# Altium schematic symbol library TLMyLibrary.SchLib: 281 symbols
Pins are listed as number, name and electrical type; pins without a type are passive.

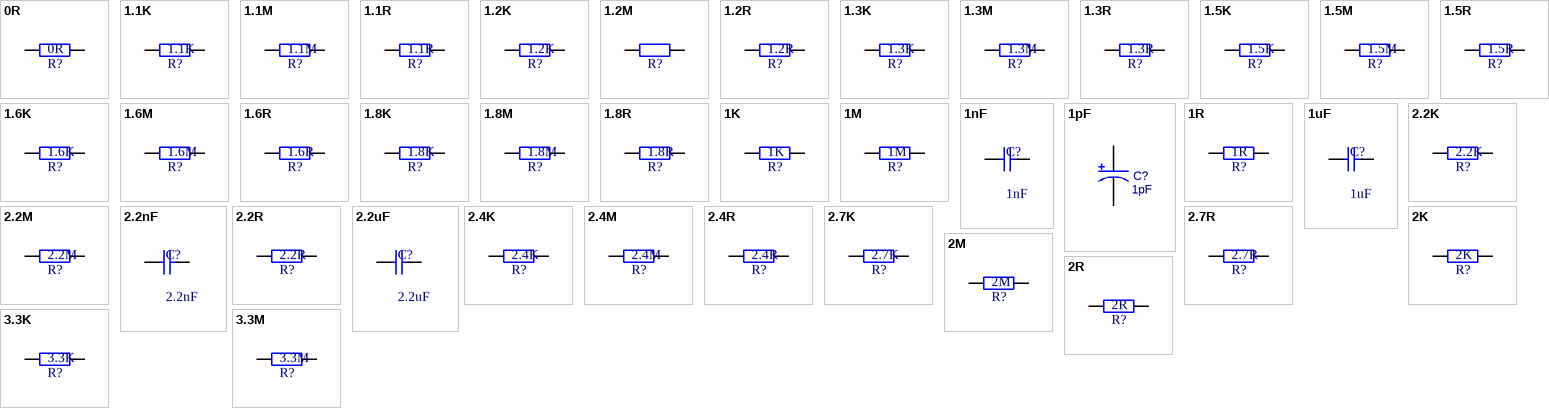
[diagram p0: symbols 0R to 3.3M]

## 0R
designator R?
贴片电阻
pins: 1, 2

## 1.1K
designator R?
贴片电阻
pins: 1, 2

## 1.1M
designator R?
贴片电阻
pins: 1, 2

## 1.1R
designator R?
贴片电阻
pins: 1, 2

## 1.2K
designator R?
贴片电阻
pins: 1, 2

## 1.2M
designator R?
贴片电阻
pins: 1, 2

## 1.2R
designator R?
贴片电阻
pins: 1, 2

## 1.3K
designator R?
贴片电阻
pins: 1, 2

## 1.3M
designator R?
贴片电阻
pins: 1, 2

## 1.3R
designator R?
贴片电阻
pins: 1, 2

## 1.5K
designator R?
贴片电阻
pins: 1, 2

## 1.5M
designator R?
贴片电阻
pins: 1, 2

## 1.5R
designator R?
贴片电阻
pins: 1, 2

## 1.6K
designator R?
贴片电阻
pins: 1, 2

## 1.6M
designator R?
贴片电阻
pins: 1, 2

## 1.6R
designator R?
贴片电阻
pins: 1, 2

## 1.8K
designator R?
贴片电阻
pins: 1, 2

## 1.8M
designator R?
贴片电阻
pins: 1, 2

## 1.8R
designator R?
贴片电阻
pins: 1, 2

## 1K
designator R?
贴片电阻
pins: 1, 2

## 1M
designator R?
贴片电阻
pins: 1, 2

## 1nF
designator C?
无极性电容
pins: 1, 2

## 1pF
designator C?
极性电容
footprint CAP-SMD_BD6.3-L6.6-W6.6-FD
pins: 1, 2

## 1R
designator R?
贴片电阻
pins: 1, 2

## 1uF
designator C?
无极性电容
pins: 1, 2

## 2.2K
designator R?
贴片电阻
pins: 1, 2

## 2.2M
designator R?
贴片电阻
pins: 1, 2

## 2.2nF
designator C?
无极性电容
pins: 1, 2

## 2.2R
designator R?
贴片电阻
pins: 1, 2

## 2.2uF
designator C?
无极性电容
pins: 1, 2

## 2.4K
designator R?
贴片电阻
pins: 1, 2

## 2.4M
designator R?
贴片电阻
pins: 1, 2

## 2.4R
designator R?
贴片电阻
pins: 1, 2

## 2.7K
designator R?
贴片电阻
pins: 1, 2

## 2.7R
designator R?
贴片电阻
pins: 1, 2

## 2K
designator R?
贴片电阻
pins: 1, 2

## 2M
designator R?
贴片电阻
pins: 1, 2

## 2R
designator R?
贴片电阻
pins: 1, 2

## 3.3K
designator R?
贴片电阻
pins: 1, 2

## 3.3M
designator R?
贴片电阻
pins: 1, 2

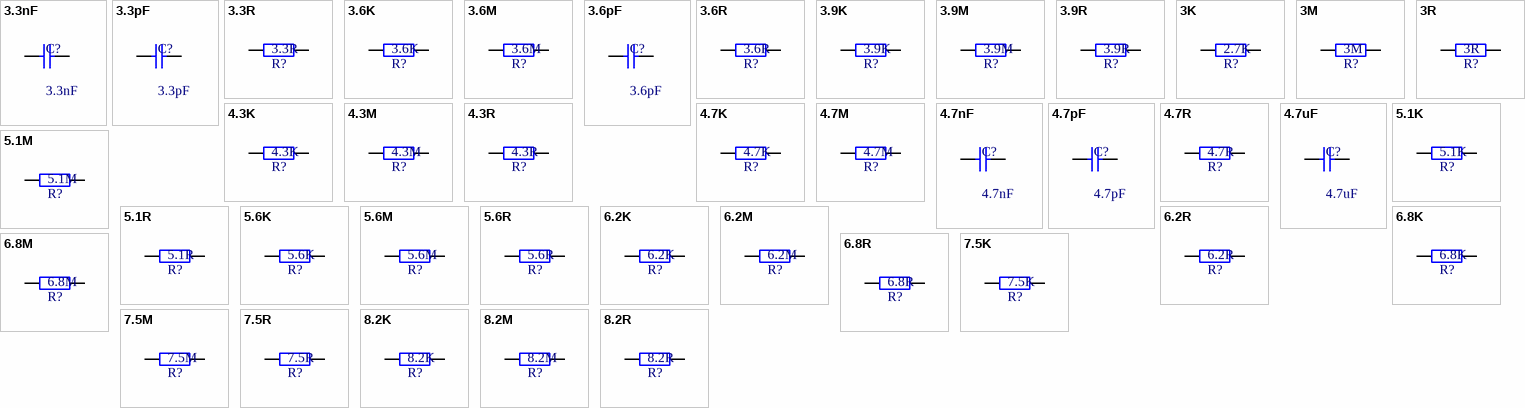
[diagram p1: symbols 3.3nF to 8.2R]

## 3.3nF
designator C?
无极性电容
pins: 1, 2

## 3.3pF
designator C?
无极性电容
pins: 1, 2

## 3.3R
designator R?
贴片电阻
pins: 1, 2

## 3.6K
designator R?
贴片电阻
pins: 1, 2

## 3.6M
designator R?
贴片电阻
pins: 1, 2

## 3.6pF
designator C?
无极性电容
pins: 1, 2

## 3.6R
designator R?
贴片电阻
pins: 1, 2

## 3.9K
designator R?
贴片电阻
pins: 1, 2

## 3.9M
designator R?
贴片电阻
pins: 1, 2

## 3.9R
designator R?
贴片电阻
pins: 1, 2

## 3K
designator R?, comment 2.7K
贴片电阻
pins: 1, 2

## 3M
designator R?
贴片电阻
pins: 1, 2

## 3R
designator R?
贴片电阻
pins: 1, 2

## 4.3K
designator R?
贴片电阻
pins: 1, 2

## 4.3M
designator R?
贴片电阻
pins: 1, 2

## 4.3R
designator R?
贴片电阻
pins: 1, 2

## 4.7K
designator R?
贴片电阻
pins: 1, 2

## 4.7M
designator R?
贴片电阻
pins: 1, 2

## 4.7nF
designator C?
无极性电容
pins: 1, 2

## 4.7pF
designator C?
无极性电容
pins: 1, 2

## 4.7R
designator R?
贴片电阻
pins: 1, 2

## 4.7uF
designator C?
无极性电容
pins: 1, 2

## 5.1K
designator R?
贴片电阻
pins: 1, 2

## 5.1M
designator R?
贴片电阻
pins: 1, 2

## 5.1R
designator R?
贴片电阻
pins: 1, 2

## 5.6K
designator R?
贴片电阻
pins: 1, 2

## 5.6M
designator R?
贴片电阻
pins: 1, 2

## 5.6R
designator R?
贴片电阻
pins: 1, 2

## 6.2K
designator R?
贴片电阻
pins: 1, 2

## 6.2M
designator R?
贴片电阻
pins: 1, 2

## 6.2R
designator R?
贴片电阻
pins: 1, 2

## 6.8K
designator R?
贴片电阻
pins: 1, 2

## 6.8M
designator R?
贴片电阻
pins: 1, 2

## 6.8R
designator R?
贴片电阻
pins: 1, 2

## 7.5K
designator R?
贴片电阻
pins: 1, 2

## 7.5M
designator R?
贴片电阻
pins: 1, 2

## 7.5R
designator R?
贴片电阻
pins: 1, 2

## 8.2K
designator R?
贴片电阻
pins: 1, 2

## 8.2M
designator R?
贴片电阻
pins: 1, 2

## 8.2R
designator R?
贴片电阻
pins: 1, 2

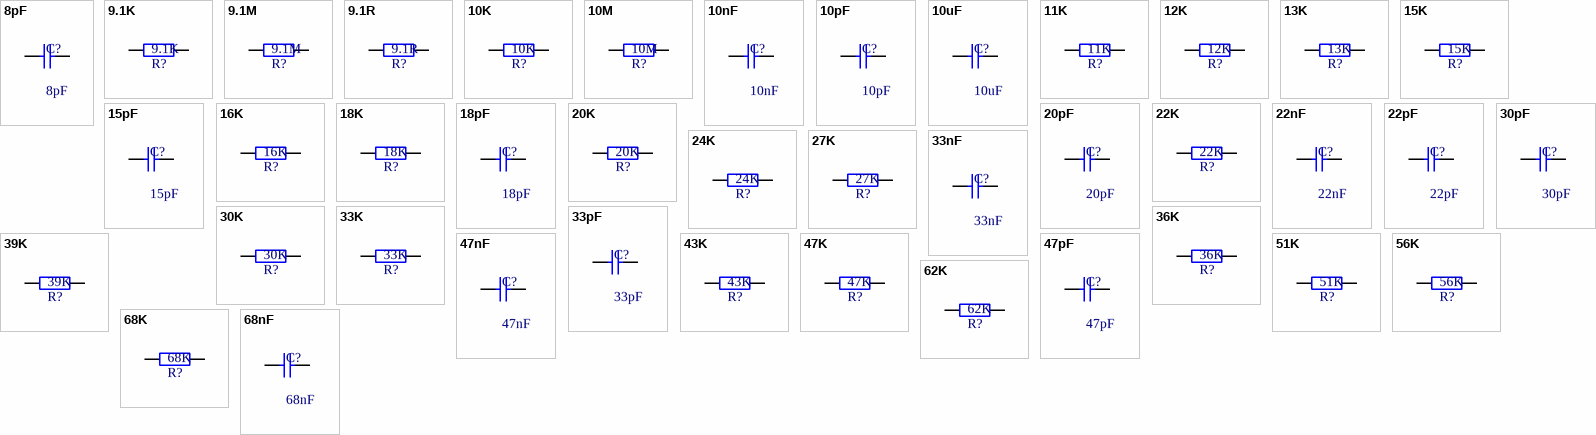
[diagram p2: symbols 8pF to 68nF]

## 8pF
designator C?
无极性电容
pins: 1, 2

## 9.1K
designator R?
贴片电阻
pins: 1, 2

## 9.1M
designator R?
贴片电阻
pins: 1, 2

## 9.1R
designator R?
贴片电阻
pins: 1, 2

## 10K
designator R?
贴片电阻
pins: 1, 2

## 10M
designator R?
贴片电阻
pins: 1, 2

## 10nF
designator C?
无极性电容
pins: 1, 2

## 10pF
designator C?
无极性电容
pins: 1, 2

## 10uF
designator C?
无极性电容
pins: 1, 2

## 11K
designator R?
贴片电阻
pins: 1, 2

## 12K
designator R?
贴片电阻
pins: 1, 2

## 13K
designator R?
贴片电阻
pins: 1, 2

## 15K
designator R?
贴片电阻
pins: 1, 2

## 15pF
designator C?
无极性电容
pins: 1, 2

## 16K
designator R?
贴片电阻
pins: 1, 2

## 18K
designator R?
贴片电阻
pins: 1, 2

## 18pF
designator C?
无极性电容
pins: 1, 2

## 20K
designator R?
贴片电阻
pins: 1, 2

## 20pF
designator C?
无极性电容
pins: 1, 2

## 22K
designator R?
贴片电阻
pins: 1, 2

## 22nF
designator C?
无极性电容
pins: 1, 2

## 22pF
designator C?
无极性电容
pins: 1, 2

## 24K
designator R?
贴片电阻
pins: 1, 2

## 27K
designator R?
贴片电阻
pins: 1, 2

## 30K
designator R?
贴片电阻
pins: 1, 2

## 30pF
designator C?
无极性电容
pins: 1, 2

## 33K
designator R?
贴片电阻
pins: 1, 2

## 33nF
designator C?
无极性电容
pins: 1, 2

## 33pF
designator C?
无极性电容
pins: 1, 2

## 36K
designator R?
贴片电阻
pins: 1, 2

## 39K
designator R?
贴片电阻
pins: 1, 2

## 43K
designator R?
贴片电阻
pins: 1, 2

## 47K
designator R?
贴片电阻
pins: 1, 2

## 47nF
designator C?
无极性电容
pins: 1, 2

## 47pF
designator C?
无极性电容
pins: 1, 2

## 51K
designator R?
贴片电阻
pins: 1, 2

## 56K
designator R?
贴片电阻
pins: 1, 2

## 62K
designator R?
贴片电阻
pins: 1, 2

## 68K
designator R?
贴片电阻
pins: 1, 2

## 68nF
designator C?
无极性电容
pins: 1, 2

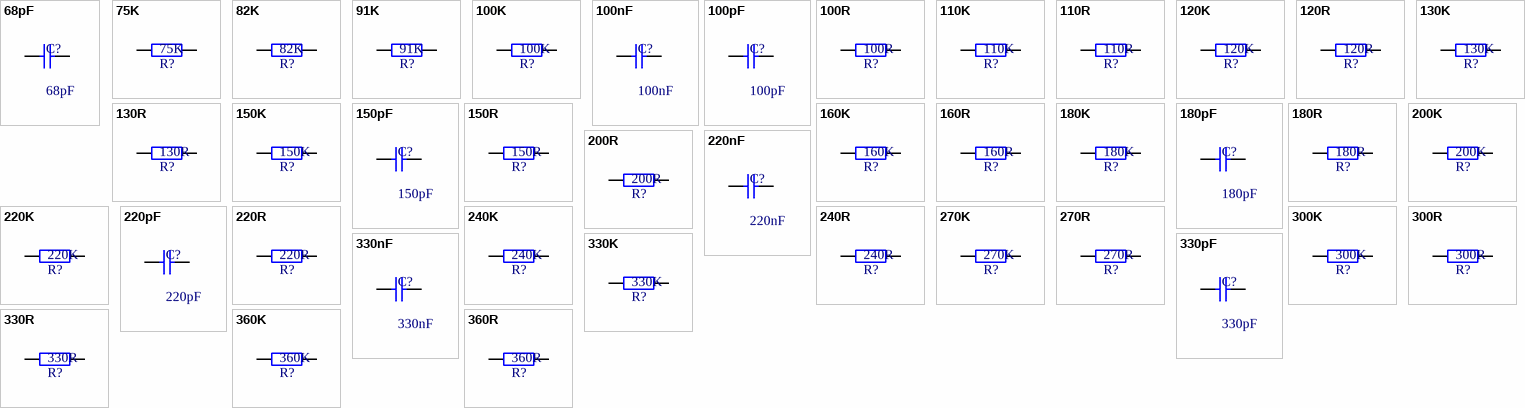
[diagram p3: symbols 68pF to 360R]

## 68pF
designator C?
无极性电容
pins: 1, 2

## 75K
designator R?
贴片电阻
pins: 1, 2

## 82K
designator R?
贴片电阻
pins: 1, 2

## 91K
designator R?
贴片电阻
pins: 1, 2

## 100K
designator R?
贴片电阻
pins: 1, 2

## 100nF
designator C?
无极性电容
pins: 1, 2

## 100pF
designator C?
无极性电容
pins: 1, 2

## 100R
designator R?
贴片电阻
pins: 1, 2

## 110K
designator R?
贴片电阻
pins: 1, 2

## 110R
designator R?
贴片电阻
pins: 1, 2

## 120K
designator R?
贴片电阻
pins: 1, 2

## 120R
designator R?
贴片电阻
pins: 1, 2

## 130K
designator R?
贴片电阻
pins: 1, 2

## 130R
designator R?
贴片电阻
pins: 1, 2

## 150K
designator R?
贴片电阻
pins: 1, 2

## 150pF
designator C?
无极性电容
pins: 1, 2

## 150R
designator R?
贴片电阻
pins: 1, 2

## 160K
designator R?
贴片电阻
pins: 1, 2

## 160R
designator R?
贴片电阻
pins: 1, 2

## 180K
designator R?
贴片电阻
pins: 1, 2

## 180pF
designator C?
无极性电容
pins: 1, 2

## 180R
designator R?
贴片电阻
pins: 1, 2

## 200K
designator R?
贴片电阻
pins: 1, 2

## 200R
designator R?
贴片电阻
pins: 1, 2

## 220K
designator R?
贴片电阻
pins: 1, 2

## 220nF
designator C?
无极性电容
pins: 1, 2

## 220pF
designator C?
无极性电容
pins: 1, 2

## 220R
designator R?
贴片电阻
pins: 1, 2

## 240K
designator R?
贴片电阻
pins: 1, 2

## 240R
designator R?
贴片电阻
pins: 1, 2

## 270K
designator R?
贴片电阻
pins: 1, 2

## 270R
designator R?
贴片电阻
pins: 1, 2

## 300K
designator R?
贴片电阻
pins: 1, 2

## 300R
designator R?
贴片电阻
pins: 1, 2

## 330K
designator R?
贴片电阻
pins: 1, 2

## 330nF
designator C?
无极性电容
pins: 1, 2

## 330pF
designator C?
无极性电容
pins: 1, 2

## 330R
designator R?
贴片电阻
pins: 1, 2

## 360K
designator R?
贴片电阻
pins: 1, 2

## 360R
designator R?
贴片电阻
pins: 1, 2

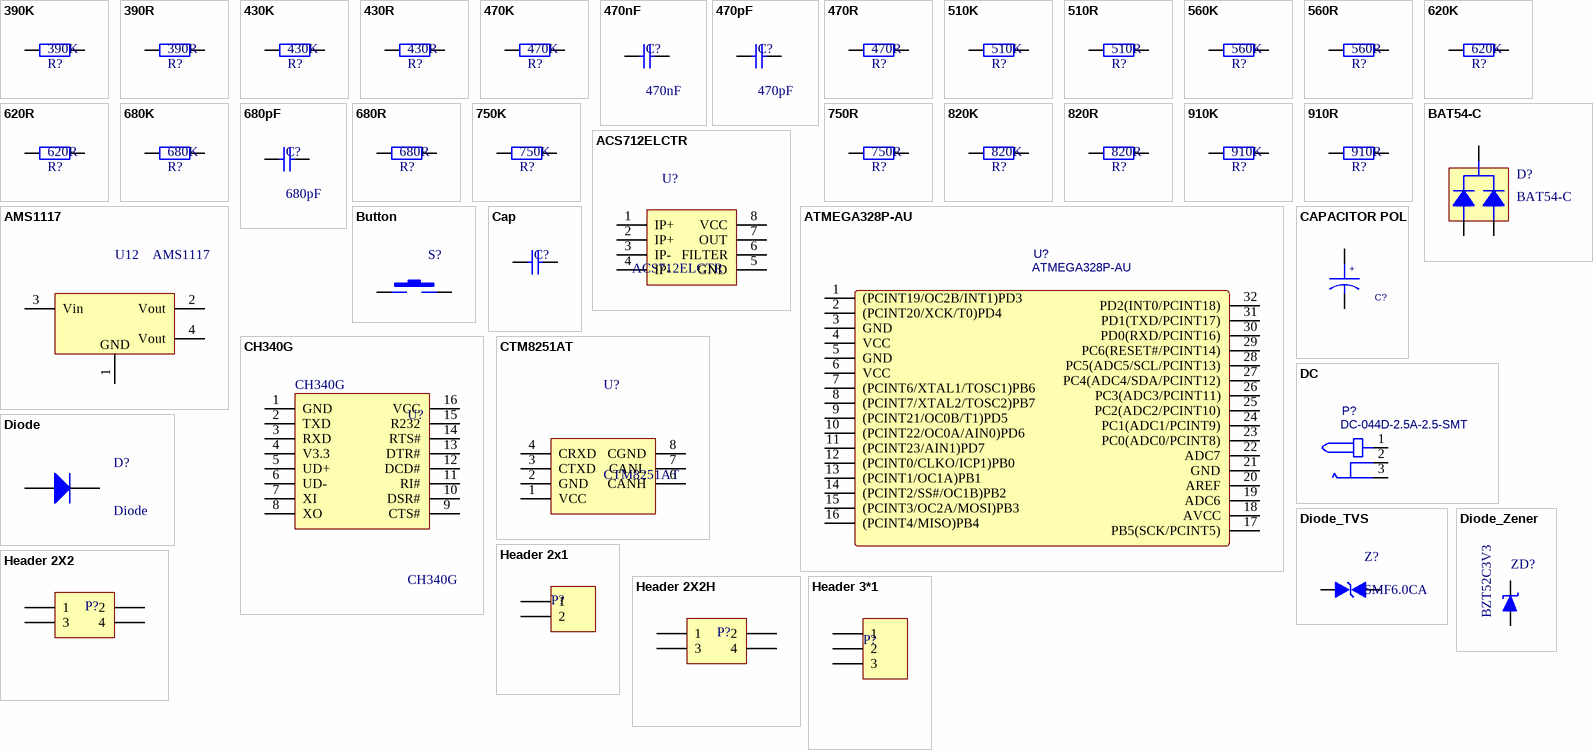
[diagram p4: symbols 390K to Header 3*1]

## 390K
designator R?
贴片电阻
pins: 1, 2

## 390R
designator R?
贴片电阻
pins: 1, 2

## 430K
designator R?
贴片电阻
pins: 1, 2

## 430R
designator R?
贴片电阻
pins: 1, 2

## 470K
designator R?
贴片电阻
pins: 1, 2

## 470nF
designator C?
无极性电容
pins: 1, 2

## 470pF
designator C?
无极性电容
pins: 1, 2

## 470R
designator R?
贴片电阻
pins: 1, 2

## 510K
designator R?
贴片电阻
pins: 1, 2

## 510R
designator R?
贴片电阻
pins: 1, 2

## 560K
designator R?
贴片电阻
pins: 1, 2

## 560R
designator R?
贴片电阻
pins: 1, 2

## 620K
designator R?
贴片电阻
pins: 1, 2

## 620R
designator R?
贴片电阻
pins: 1, 2

## 680K
designator R?
贴片电阻
pins: 1, 2

## 680pF
designator C?
无极性电容
pins: 1, 2

## 680R
designator R?
贴片电阻
pins: 1, 2

## 750K
designator R?
贴片电阻
pins: 1, 2

## 750R
designator R?
贴片电阻
pins: 1, 2

## 820K
designator R?
贴片电阻
pins: 1, 2

## 820R
designator R?
贴片电阻
pins: 1, 2

## 910K
designator R?
贴片电阻
pins: 1, 2

## 910R
designator R?
贴片电阻
pins: 1, 2

## ACS712ELCTR
designator U?
电流传感器
footprint SOIC-8
pins: 1 IP+, 2 IP+, 3 IP-, 4 IP-, 5 GND, 6 FILTER, 7 OUT, 8 VCC

## AMS1117
designator U12
LDO
footprint SOT223-3
footprint SOT-89(SOT-89-3)
pins: 1 GND, 2 Vout, 3 Vin, 4 Vout

## ATMEGA328P-AU
designator U?
MCU
footprint TQFP-32_L7.0-W7.0-P0.80-LS9.0-BL
pins: 1 (PCINT19/OC2B/INT1)PD3, 2 (PCINT20/XCK/T0)PD4, 3 GND, 4 VCC, 5 GND, 6 VCC, 7 (PCINT6/XTAL1/TOSC1)PB6, 8 (PCINT7/XTAL2/TOSC2)PB7, 9 (PCINT21/OC0B/T1)PD5, 10 (PCINT22/OC0A/AIN0)PD6, 11 (PCINT23/AIN1)PD7, 12 (PCINT0/CLKO/ICP1)PB0, 13 (PCINT1/OC1A)PB1, 14 (PCINT2/SS#/OC1B)PB2, 15 (PCINT3/OC2A/MOSI)PB3, 16 (PCINT4/MISO)PB4, 17 PB5(SCK/PCINT5), 18 AVCC, 19 ADC6, 20 AREF, 21 GND, 22 ADC7, 23 PC0(ADC0/PCINT8), 24 PC1(ADC1/PCINT9), 25 PC2(ADC2/PCINT10), 26 PC3(ADC3/PCINT11), 27 PC4(ADC4/SDA/PCINT12), 28 PC5(ADC5/SCL/PCINT13), 29 PC6(RESET#/PCINT14), 30 PD0(RXD/PCINT16), 31 PD1(TXD/PCINT17), 32 PD2(INT0/PCINT18)

## BAT54-C
designator D?
pins: 1, 2, 3

## Button
designator S?
轻触按键
pins: 1, 3

## Cap
designator C?
无极性电容
pins: 1, 2

## CAPACITOR POL
designator C?
极性电容
pins: 1, 2
text: +

## CH340G
designator U?
USB转串口芯片
footprint SOIC-16_150mil
pins: 1 GND, 2 TXD, 3 RXD, 4 V3.3, 5 UD+, 6 UD-, 7 XI, 8 XO, 9 CTS#, 10 DSR#, 11 RI#, 12 DCD#, 13 DTR#, 14 RTS#, 15 R232, 16 VCC

## CTM8251AT
designator U?
CAN隔离收发器; 厂家: 致远电子; 型号: CKM8251AT
footprint COMM-TH_CTM8251AT (19*16*7mm)
pins: 1 VCC (power), 2 GND, 3 CTXD, 4 CRXD, 6 CANH, 7 CANL, 8 CGND

## DC
designator P?, comment DC-044D-2.5A-2.5-SMT
DC头; BOM_Manufacturer: XKB Enterprise; Contributor: LCSC; BOM_Supplier: LCSC; BOM_Supplier Part: C397343; BOM_Manufacturer Part: DC-044D-2.5A-2.5-SMT; BOM_JLCPCB Part Class: Extended Part; spicePre: D; spiceSymbolName: DC-044D-2.5A-2.5-SMT
footprint DC-IN-SMD_DC-044D-2.5A-2.5-SMT
pins: 1, 2, 3

## Diode
designator D?
二极管
pins: 1 A, 2 K

## Diode_TVS
designator Z?, comment SMF6.0CA
TVS二极管
pins: 1 K, 2 A

## Diode_Zener
designator ZD?, comment BZT52C3V3
稳压二极管
footprint SMA
footprint SMB
footprint SMC (DO-214-AB/SMC; 2 C-Bend Leads; Body 7.9 x 5.9 mm, inc. leads (LxW))
footprint SOD-80
pins: 1 K, 2 A

## Header 2x1
designator P?
Header,1x 2
pins: 1, 2

## Header 2X2
designator P?
Header 2X2
pins: 1, 2, 3, 4

## Header 2X2H
designator P?
Header 2X2H
pins: 1, 2, 3, 4

## Header 3*1
designator P?
Header 1x3
pins: 1, 2, 3

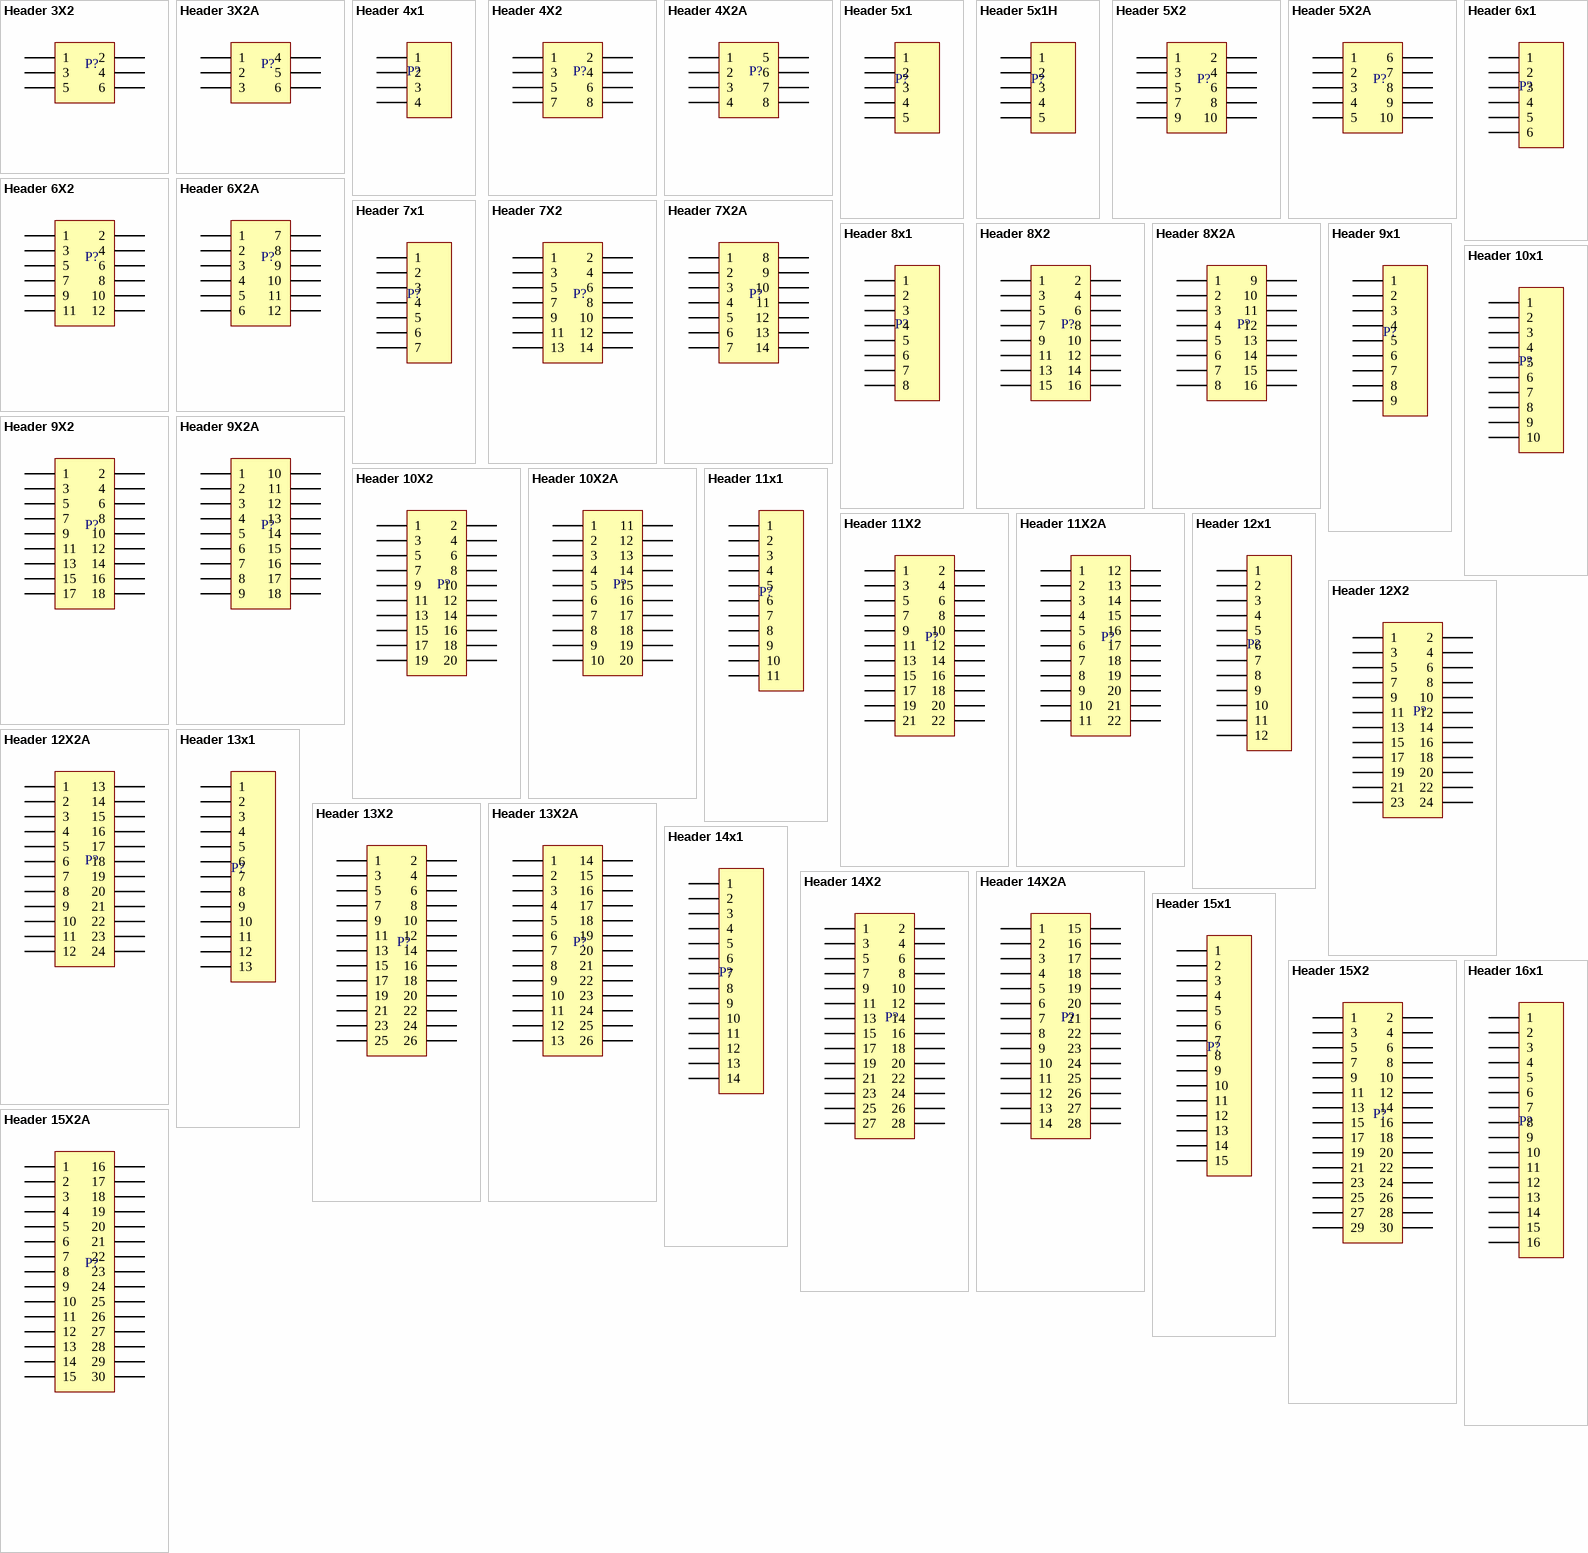
[diagram p5: symbols Header 3X2 to Header 16x1]

## Header 3X2
designator P?
Header 3X2
pins: 1, 2, 3, 4, 5, 6

## Header 3X2A
designator P?
Header 3X2A
pins: 1, 2, 3, 4, 5, 6

## Header 4x1
designator P?
Header 4x1
pins: 1, 2, 3, 4

## Header 4X2
designator P?
Header 4X2
pins: 1, 2, 3, 4, 5, 6, 7, 8

## Header 4X2A
designator P?
Header 4X2A
pins: 1, 2, 3, 4, 5, 6, 7, 8

## Header 5x1
designator P?
Header 5x1
pins: 1, 2, 3, 4, 5

## Header 5x1H
designator P?
Header 5x1H
pins: 1, 2, 3, 4, 5

## Header 5X2
designator P?
Header 5X2
pins: 1, 2, 3, 4, 5, 6, 7, 8, 9, 10

## Header 5X2A
designator P?
Header 5X2A
pins: 1, 2, 3, 4, 5, 6, 7, 8, 9, 10

## Header 6x1
designator P?
Header, 6-Pin
pins: 1, 2, 3, 4, 5, 6

## Header 6X2
designator P?
Header 6X2
pins: 1, 2, 3, 4, 5, 6, 7, 8, 9, 10, 11, 12

## Header 6X2A
designator P?
Header 6X2A
pins: 1, 2, 3, 4, 5, 6, 7, 8, 9, 10, 11, 12

## Header 7x1
designator P?
Header 7x1
pins: 1, 2, 3, 4, 5, 6, 7

## Header 7X2
designator P?
Header 7X2
pins: 1, 2, 3, 4, 5, 6, 7, 8, 9, 10, 11, 12, 13, 14

## Header 7X2A
designator P?
Header 7X2A
pins: 1, 2, 3, 4, 5, 6, 7, 8, 9, 10, 11, 12, 13, 14

## Header 8x1
designator P?
Header 8x1
pins: 1, 2, 3, 4, 5, 6, 7, 8

## Header 8X2
designator P?
Header 8X2
pins: 1, 2, 3, 4, 5, 6, 7, 8, 9, 10, 11, 12, 13, 14, 15, 16

## Header 8X2A
designator P?
Header 8X2A
pins: 1, 2, 3, 4, 5, 6, 7, 8, 9, 10, 11, 12, 13, 14, 15, 16

## Header 9x1
designator P?
Header 9x1
pins: 1, 2, 3, 4, 5, 6, 7, 8, 9

## Header 9X2
designator P?
Header 9X2
pins: 1, 2, 3, 4, 5, 6, 7, 8, 9, 10, 11, 12, 13, 14, 15, 16, 17, 18

## Header 9X2A
designator P?
Header 9X2A
pins: 1, 2, 3, 4, 5, 6, 7, 8, 9, 10, 11, 12, 13, 14, 15, 16, 17, 18

## Header 10x1
designator P?
Header 10x1
pins: 1, 2, 3, 4, 5, 6, 7, 8, 9, 10

## Header 10X2
designator P?
Header 10X2
pins: 1, 2, 3, 4, 5, 6, 7, 8, 9, 10, 11, 12, 13, 14, 15, 16, 17, 18, 19, 20

## Header 10X2A
designator P?
Header 10X2A
pins: 1, 2, 3, 4, 5, 6, 7, 8, 9, 10, 11, 12, 13, 14, 15, 16, 17, 18, 19, 20

## Header 11x1
designator P?
Header 11x1
pins: 1, 2, 3, 4, 5, 6, 7, 8, 9, 10, 11

## Header 11X2
designator P?
Header 11X2
pins: 1, 2, 3, 4, 5, 6, 7, 8, 9, 10, 11, 12, 13, 14, 15, 16, 17, 18, 19, 20, 21, 22

## Header 11X2A
designator P?
Header 11X2A
pins: 1, 2, 3, 4, 5, 6, 7, 8, 9, 10, 11, 12, 13, 14, 15, 16, 17, 18, 19, 20, 21, 22

## Header 12x1
designator P?
Header 12x1
pins: 1, 2, 3, 4, 5, 6, 7, 8, 9, 10, 11, 12

## Header 12X2
designator P?
Header 12X2
pins: 1, 2, 3, 4, 5, 6, 7, 8, 9, 10, 11, 12, 13, 14, 15, 16, 17, 18, 19, 20, 21, 22, 23, 24

## Header 12X2A
designator P?
Header 12X2A
pins: 1, 2, 3, 4, 5, 6, 7, 8, 9, 10, 11, 12, 13, 14, 15, 16, 17, 18, 19, 20, 21, 22, 23, 24

## Header 13x1
designator P?
Header 13x1
pins: 1, 2, 3, 4, 5, 6, 7, 8, 9, 10, 11, 12, 13

## Header 13X2
designator P?
Header 13X2
pins: 1, 2, 3, 4, 5, 6, 7, 8, 9, 10, 11, 12, 13, 14, 15, 16, 17, 18, 19, 20, 21, 22, 23, 24, 25, 26

## Header 13X2A
designator P?
Header 13X2A
pins: 1, 2, 3, 4, 5, 6, 7, 8, 9, 10, 11, 12, 13, 14, 15, 16, 17, 18, 19, 20, 21, 22, 23, 24, 25, 26

## Header 14x1
designator P?
Header 14x1
pins: 1, 2, 3, 4, 5, 6, 7, 8, 9, 10, 11, 12, 13, 14

## Header 14X2
designator P?
Header 14X2; LatestRevisionDate: 17-Jul-2002; LatestRevisionNote: Re-released for DXP Platform.; Publisher: Altium Limited
footprint HDR2X14 (Connector; Header; 14x2 Position)
signal-integrity model Connector
pins: 1, 2, 3, 4, 5, 6, 7, 8, 9, 10, 11, 12, 13, 14, 15, 16, 17, 18, 19, 20, 21, 22, 23, 24, 25, 26, 27, 28

## Header 14X2A
designator P?
Header 14X2A
pins: 1, 2, 3, 4, 5, 6, 7, 8, 9, 10, 11, 12, 13, 14, 15, 16, 17, 18, 19, 20, 21, 22, 23, 24, 25, 26, 27, 28

## Header 15x1
designator P?
Header 15x1
pins: 1, 2, 3, 4, 5, 6, 7, 8, 9, 10, 11, 12, 13, 14, 15

## Header 15X2
designator P?
Header 15X2
pins: 1, 2, 3, 4, 5, 6, 7, 8, 9, 10, 11, 12, 13, 14, 15, 16, 17, 18, 19, 20, 21, 22, 23, 24, 25, 26, 27, 28, 29, 30

## Header 15X2A
designator P?
Header 15X2A
pins: 1, 2, 3, 4, 5, 6, 7, 8, 9, 10, 11, 12, 13, 14, 15, 16, 17, 18, 19, 20, 21, 22, 23, 24, 25, 26, 27, 28, 29, 30

## Header 16x1
designator P?
Header 16x1
pins: 1, 2, 3, 4, 5, 6, 7, 8, 9, 10, 11, 12, 13, 14, 15, 16

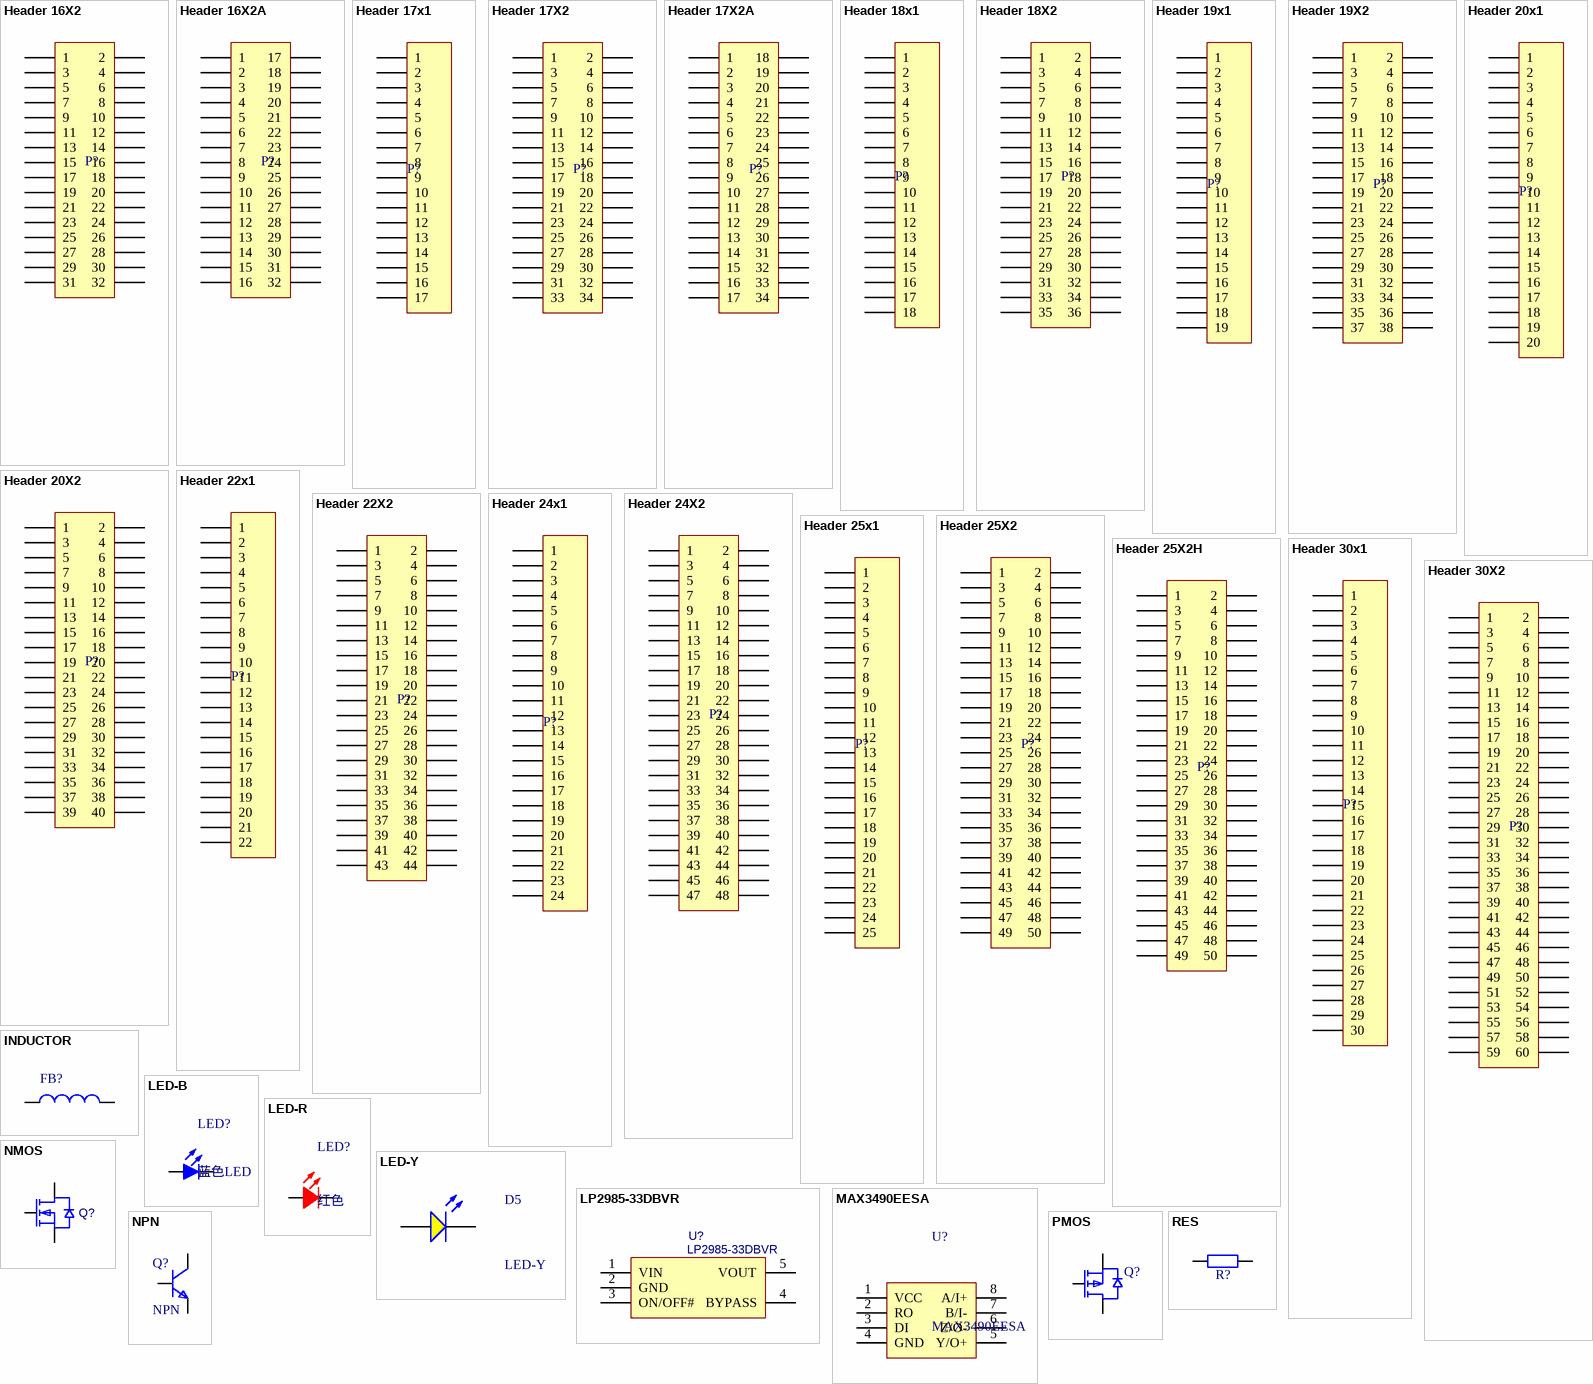
[diagram p6: symbols Header 16X2 to RES]

## Header 16X2
designator P?
Header 16X2
pins: 1, 2, 3, 4, 5, 6, 7, 8, 9, 10, 11, 12, 13, 14, 15, 16, 17, 18, 19, 20, 21, 22, 23, 24, 25, 26, 27, 28, 29, 30, 31, 32

## Header 16X2A
designator P?
Header 16X2A
pins: 1, 2, 3, 4, 5, 6, 7, 8, 9, 10, 11, 12, 13, 14, 15, 16, 17, 18, 19, 20, 21, 22, 23, 24, 25, 26, 27, 28, 29, 30, 31, 32

## Header 17x1
designator P?
Header 17x1
pins: 1, 2, 3, 4, 5, 6, 7, 8, 9, 10, 11, 12, 13, 14, 15, 16, 17

## Header 17X2
designator P?
Header 17X2
pins: 1, 2, 3, 4, 5, 6, 7, 8, 9, 10, 11, 12, 13, 14, 15, 16, 17, 18, 19, 20, 21, 22, 23, 24, 25, 26, 27, 28, 29, 30, 31, 32, 33, 34

## Header 17X2A
designator P?
Header 17X2A
pins: 1, 2, 3, 4, 5, 6, 7, 8, 9, 10, 11, 12, 13, 14, 15, 16, 17, 18, 19, 20, 21, 22, 23, 24, 25, 26, 27, 28, 29, 30, 31, 32, 33, 34

## Header 18x1
designator P?
Header 18x1
pins: 1, 2, 3, 4, 5, 6, 7, 8, 9, 10, 11, 12, 13, 14, 15, 16, 17, 18

## Header 18X2
designator P?
Header 18X2
pins: 1, 2, 3, 4, 5, 6, 7, 8, 9, 10, 11, 12, 13, 14, 15, 16, 17, 18, 19, 20, 21, 22, 23, 24, 25, 26, 27, 28, 29, 30, 31, 32, 33, 34, 35, 36

## Header 19x1
designator P?
Header 19x1
pins: 1, 2, 3, 4, 5, 6, 7, 8, 9, 10, 11, 12, 13, 14, 15, 16, 17, 18, 19

## Header 19X2
designator P?
Header 19X2
pins: 1, 2, 3, 4, 5, 6, 7, 8, 9, 10, 11, 12, 13, 14, 15, 16, 17, 18, 19, 20, 21, 22, 23, 24, 25, 26, 27, 28, 29, 30, 31, 32, 33, 34, 35, 36, 37, 38

## Header 20x1
designator P?
Header 20x1
pins: 1, 2, 3, 4, 5, 6, 7, 8, 9, 10, 11, 12, 13, 14, 15, 16, 17, 18, 19, 20

## Header 20X2
designator P?
Header 20X2
pins: 1, 2, 3, 4, 5, 6, 7, 8, 9, 10, 11, 12, 13, 14, 15, 16, 17, 18, 19, 20, 21, 22, 23, 24, 25, 26, 27, 28, 29, 30, 31, 32, 33, 34, 35, 36, 37, 38, 39, 40

## Header 22x1
designator P?
Header 22x1
pins: 1, 2, 3, 4, 5, 6, 7, 8, 9, 10, 11, 12, 13, 14, 15, 16, 17, 18, 19, 20, 21, 22

## Header 22X2
designator P?
Header 22X2
pins: 1, 2, 3, 4, 5, 6, 7, 8, 9, 10, 11, 12, 13, 14, 15, 16, 17, 18, 19, 20, 21, 22, 23, 24, 25, 26, 27, 28, 29, 30, 31, 32, 33, 34, 35, 36, 37, 38, 39, 40, 41, 42, 43, 44

## Header 24x1
designator P?
Header 24x1
pins: 1, 2, 3, 4, 5, 6, 7, 8, 9, 10, 11, 12, 13, 14, 15, 16, 17, 18, 19, 20, 21, 22, 23, 24

## Header 24X2
designator P?
Header 24X2
pins: 1, 2, 3, 4, 5, 6, 7, 8, 9, 10, 11, 12, 13, 14, 15, 16, 17, 18, 19, 20, 21, 22, 23, 24, 25, 26, 27, 28, 29, 30, 31, 32, 33, 34, 35, 36, 37, 38, 39, 40, 41, 42, 43, 44, 45, 46, 47, 48

## Header 25x1
designator P?
Header 25x1
pins: 1, 2, 3, 4, 5, 6, 7, 8, 9, 10, 11, 12, 13, 14, 15, 16, 17, 18, 19, 20, 21, 22, 23, 24, 25

## Header 25X2
designator P?
Header 25X2
pins: 1, 2, 3, 4, 5, 6, 7, 8, 9, 10, 11, 12, 13, 14, 15, 16, 17, 18, 19, 20, 21, 22, 23, 24, 25, 26, 27, 28, 29, 30, 31, 32, 33, 34, 35, 36, 37, 38, 39, 40, 41, 42, 43, 44, 45, 46, 47, 48, 49, 50

## Header 25X2H
designator P?
Header 25X2H
pins: 1, 2, 3, 4, 5, 6, 7, 8, 9, 10, 11, 12, 13, 14, 15, 16, 17, 18, 19, 20, 21, 22, 23, 24, 25, 26, 27, 28, 29, 30, 31, 32, 33, 34, 35, 36, 37, 38, 39, 40, 41, 42, 43, 44, 45, 46, 47, 48, 49, 50

## Header 30x1
designator P?
Header 30x1
pins: 1, 2, 3, 4, 5, 6, 7, 8, 9, 10, 11, 12, 13, 14, 15, 16, 17, 18, 19, 20, 21, 22, 23, 24, 25, 26, 27, 28, 29, 30

## Header 30X2
designator P?
Header 30X2
pins: 1, 2, 3, 4, 5, 6, 7, 8, 9, 10, 11, 12, 13, 14, 15, 16, 17, 18, 19, 20, 21, 22, 23, 24, 25, 26, 27, 28, 29, 30, 31, 32, 33, 34, 35, 36, 37, 38, 39, 40, 41, 42, 43, 44, 45, 46, 47, 48, 49, 50, 51, 52, 53, 54, 55, 56, 57, 58, 59, 60

## INDUCTOR
designator FB?  (value not drawn)
电感磁珠
footprint L0603
pins: 1, 2

## LED-B
designator LED?, comment 蓝色LED
footprint LED_0603_Blue (1.6*0.8mm)
pins: A, K

## LED-R
designator LED?, comment 红色
红色LED
footprint LED_0603_Red (1.6*0.8mm)
pins: A, K

## LED-Y
designator D5
黄色LED; ComponentLink1Description: 供应商链接; ComponentLink1URL: http://www.szlcsc.com/product/details_73147.html
footprint LED_0603_Yellow (1.6*0.8mm)
pins: A, K

## LP2985-33DBVR
designator U?
LDO
pins: 1 VIN, 2 GND, 3 ON/OFF#, 4 BYPASS, 5 VOUT

## MAX3490EESA
designator U?
全双工RS485/RS422收发器
pins: 1 VCC, 2 RO, 3 DI, 4 GND, 5 Y/O+, 6 Z/O-, 7 B/I-, 8 A/I+

## NMOS
designator Q?
PMOS
pins: 1 G, 2 S, 3 D

## NPN
designator Q?
NPN三极管
pins: 1, 2, 3

## PMOS
designator Q?
PMOS
pins: 1 G, 2 S, 3 D

## RES
designator R?
贴片电阻
pins: 1, 2

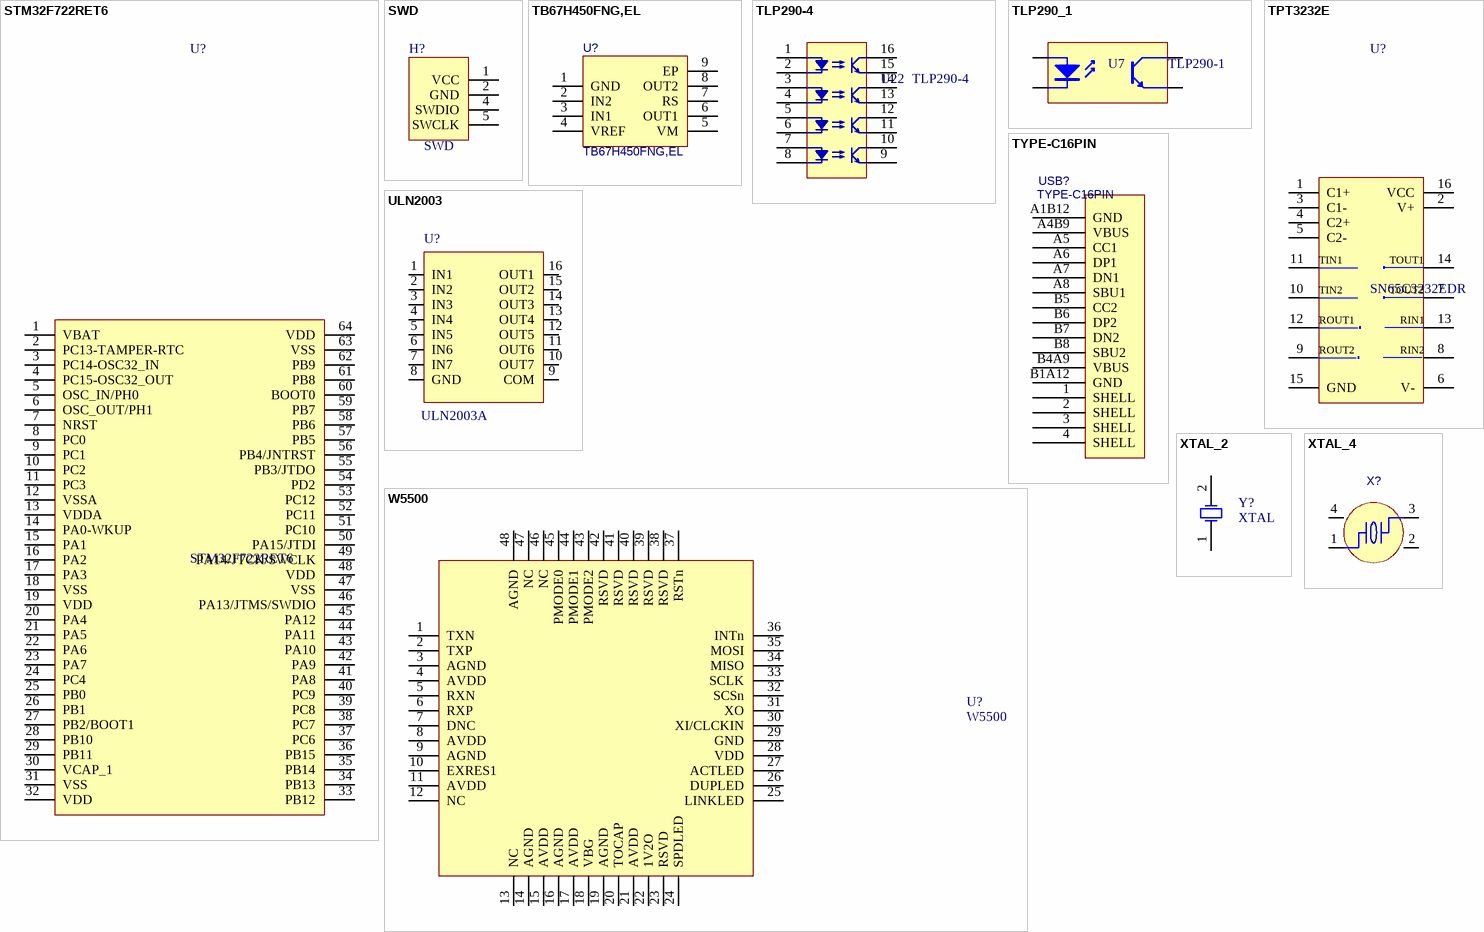
[diagram p7: symbols STM32F722RET6 to XTAL_4]

## STM32F722RET6
designator U?
pins: 1 VBAT (power), 2 PC13-TAMPER-RTC, 3 PC14-OSC32_IN, 4 PC15-OSC32_OUT, 5 OSC_IN/PH0, 6 OSC_OUT/PH1, 7 NRST, 8 PC0, 9 PC1, 10 PC2, 11 PC3, 12 VSSA (power), 13 VDDA (power), 14 PA0-WKUP, 15 PA1, 16 PA2, 17 PA3, 18 VSS (power), 19 VDD (power), 20 PA4, 21 PA5, 22 PA6, 23 PA7, 24 PC4, 25 PB0, 26 PB1, 27 PB2/BOOT1, 28 PB10, 29 PB11, 30 VCAP_1, 31 VSS (power), 32 VDD (power), 33 PB12, 34 PB13, 35 PB14, 36 PB15, 37 PC6, 38 PC7, 39 PC8, 40 PC9, 41 PA8, 42 PA9, 43 PA10, 44 PA11, 45 PA12, 46 PA13/JTMS/SWDIO, 47 VSS (power), 48 VDD (power), 49 PA14/JTCK/SWCLK, 50 PA15/JTDI, 51 PC10, 52 PC11, 53 PC12, 54 PD2, 55 PB3/JTDO, 56 PB4/JNTRST, 57 PB5, 58 PB6, 59 PB7, 60 BOOT0, 61 PB8, 62 PB9, 63 VSS (power), 64 VDD (power)
2 alternate drawings of the same symbol

## SWD
designator H?
pins: 1 VCC, 2 GND, 4 SWDIO, 5 SWCLK

## TB67H450FNG,EL
designator U?
电机驱动芯片
footprint HSOP-8
pins: 1 GND, 2 IN2, 3 IN1, 4 VREF, 5 VM, 6 OUT1, 7 RS, 8 OUT2, 9 EP

## TLP290-4
designator U22
4位光耦; 存货全名: 4通道光耦; 存货编号: 10141000240A; 存货规格: 4通道/SOP16/通用型; 存货型号: TLP290-4; 制造商编号: TLP290-4; 缺省供应商: 飞凌特; 缺省供应商编号: TLP290-4
footprint SO-16_M (SOIC, 16-Leads, Body 9.9x3.9mm, Pitch 1.27mm, IPC Low Density)
footprint SOIC-16
pins: 1, 2, 3, 4, 5, 6, 7, 8, 9, 10, 11, 12, 13, 14, 15, 16

## TLP290_1
designator U7, comment TLP290-1
TLP290_1; Manufacturer_Name: Toshiba; Manufacturer_Part_Number: TLP290(SE(T; Datasheet Link: http://uk.rs-online.com/web/p/products/8851086; Height: 2.2mm; Arrow Part Number: TLP290(SE(T; Arrow Price/Stock: https://www.arrow.com/en/products/tlp290-se-t/toshiba; Mouser Part Number: N/A; Mouser Price/Stock: https://www.mouser.com/Search/Refine.aspx?Keyword=N%2FA
footprint SO4N
pins: 1 A "Anode", 2 K "Cathode", 3 E "Emitter", 4 C "Collector"

## TPT3232E
designator U?, comment SN65C3232EDR
RS232,思瑞浦; 厂家: 3PEAK 思瑞普; 型号: TPT3232E
footprint SOIC-16_150MIL
pins: 1 C1+, 2 V+ (power), 3 C1-, 4 C2+, 5 C2-, 6 V- (power), 7 T2OUT, 8 R2IN, 9 R2OUT, 10 T2IN, 11 T1IN, 12 R1OUT, 13 R1IN, 14 T1OUT, 15 GND (power), 16 VCC (power)
text: TIN1; TOUT1; TIN2; TOUT2; ROUT1; RIN1; ROUT2; RIN2

## TYPE-C16PIN
designator USB?
footprint USB-C-SMD_TYPE-C16PIN
pins: 1 SHELL, 2 SHELL, 3 SHELL, 4 SHELL, A1B12 GND, A4B9 VBUS, A5 CC1, A6 DP1, A7 DN1, A8 SBU1, B1A12 GND, B4A9 VBUS, B5 CC2, B6 DP2, B7 DN2, B8 SBU2

## ULN2003
designator U?, comment ULN2003A
footprint SOIC-16N
pins: 1 IN1, 2 IN2, 3 IN3, 4 IN4, 5 IN5, 6 IN6, 7 IN7, 8 GND, 9 COM, 10 OUT7, 11 OUT6, 12 OUT5, 13 OUT4, 14 OUT3, 15 OUT2, 16 OUT1

## W5500
designator U?
W5500以太网芯片
pins: 1 TXN, 2 TXP, 3 AGND, 4 AVDD, 5 RXN, 6 RXP, 7 DNC, 8 AVDD, 9 AGND, 10 EXRES1, 11 AVDD, 12 NC, 13 NC, 14 AGND, 15 AVDD, 16 AGND, 17 AVDD, 18 VBG, 19 AGND, 20 TOCAP, 21 AVDD, 22 1V2O, 23 RSVD, 24 SPDLED, 25 LINKLED, 26 DUPLED, 27 ACTLED, 28 VDD, 29 GND, 30 XI/CLCKIN, 31 XO, 32 SCSn, 33 SCLK, 34 MISO, 35 MOSI, 36 INTn, 37 RSTn, 38 RSVD, 39 RSVD, 40 RSVD, 41 RSVD, 42 RSVD, 43 PMODE2, 44 PMODE1, 45 PMODE0, 46 NC, 47 NC, 48 AGND
2 alternate drawings of the same symbol

## XTAL_2
designator Y?, comment XTAL
Crystal Oscillator; Published: 8-Jun-2000; LatestRevisionDate: 17-Jul-2002; LatestRevisionNote: Re-released for DXP Platform.; PackageReference: R38; Publisher: Altium Limited; PackageDescription: Crystal, Thru-Hole; 2 Leads; Body 3.1 x 8.2 mm (Dia.xH)
footprint R38 (Crystal, Thru-Hole; 2 Leads; Body 3.1 x 8.2 mm (Dia.xH))
simulation model XTAL (Spice Subcircuit)
pins: 1 OSC1, 2 OSC2

## XTAL_4
designator X?
4脚晶体
footprint OSC 2025-4P (2*2.5*0.55mm(长宽高))
footprint OSC 3225-4P (3.2*2.5*0.7mm(长宽高))
pins: 1, 2 GND, 3, 4 GND